# Altium footprint library ad.PcbLib: 129 footprints (part 2 of 12)
Each footprint in its own frame and in the unit in brackets; x right, y up, seen from the top. Pads: shape width x height; smd on the part's side, far side on the other; paste and mask are expansions set on the pad; w line width, h text height; cw(c..) or ccw(c..) is an arc to the next point about the centre after c.
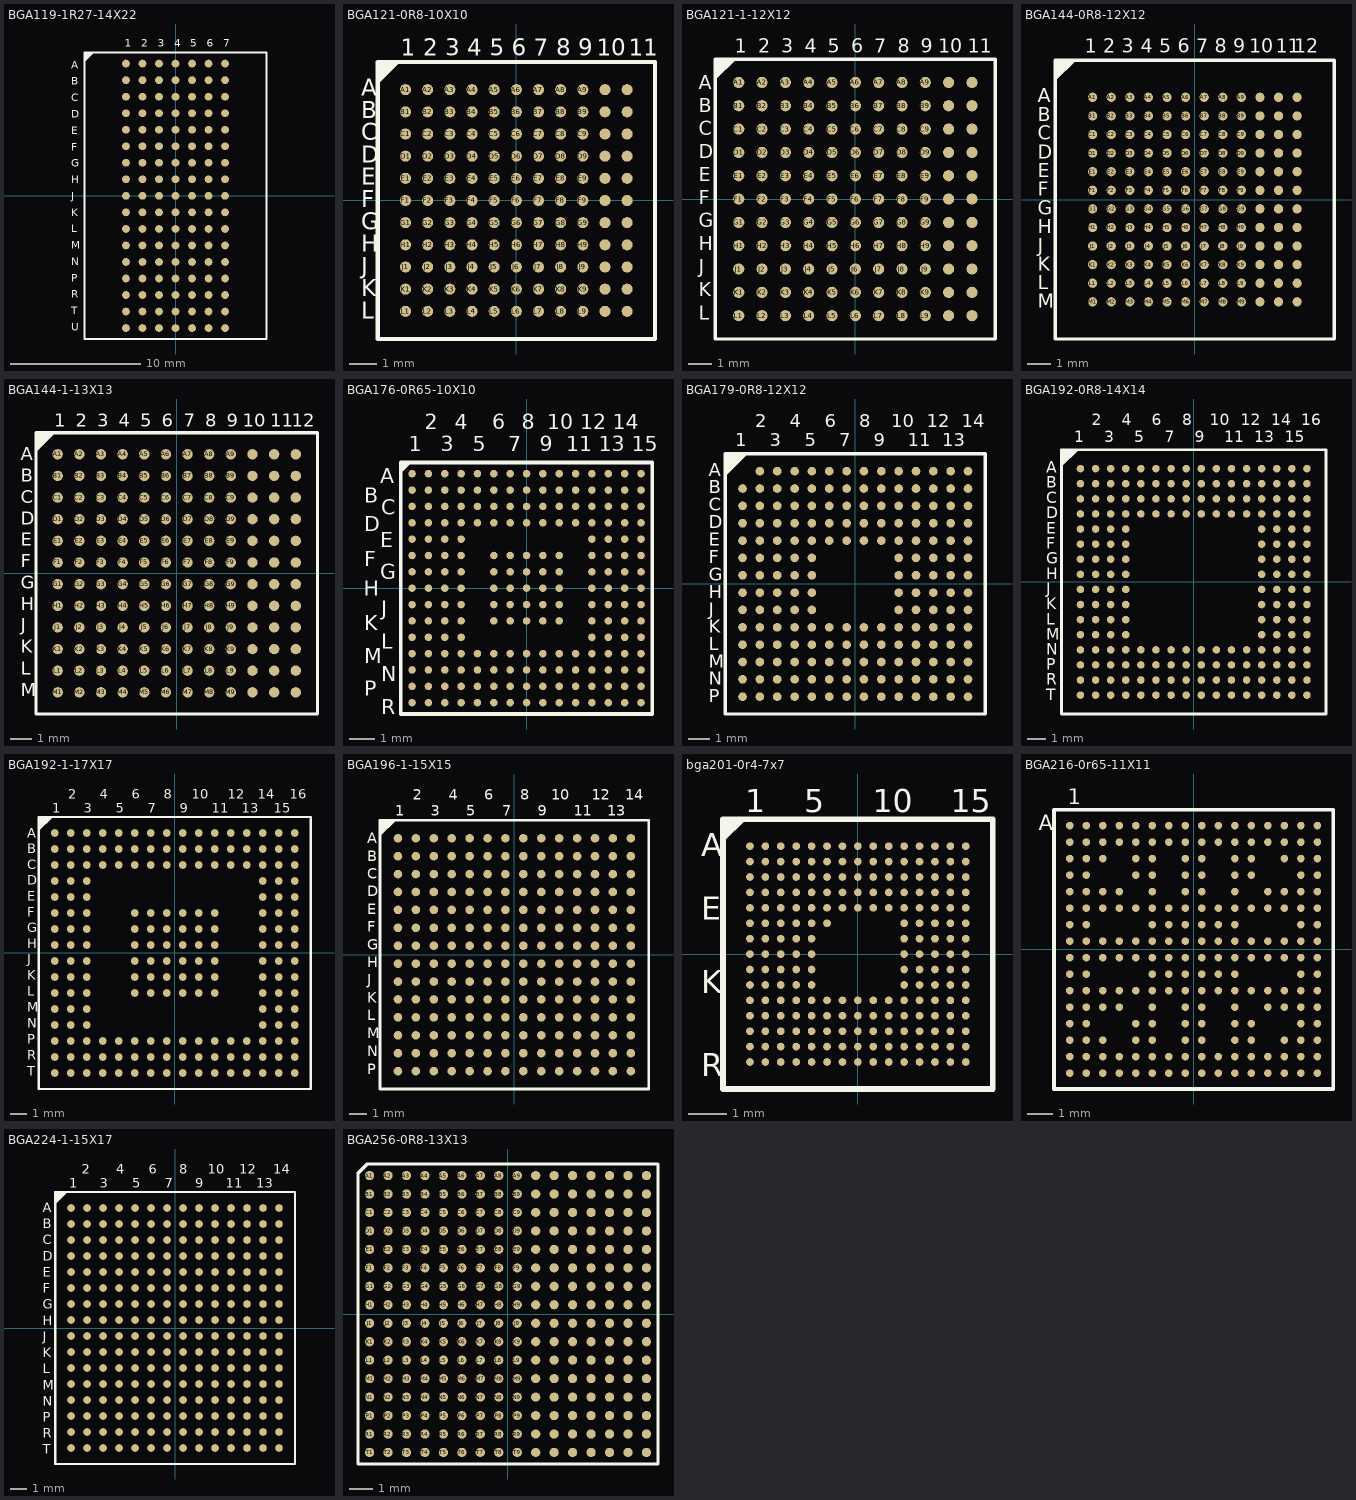
[diagram p1: the footprints below, top view; thin cyan lines are the x and y axes]

## BGA119-1R27-14X22 [mm]
pads (119):
  round 0.6 smd: A1(-3.81,10.16) A2(-2.54,10.16) A3(-1.27,10.16) A4(0,10.16) A5(1.27,10.16) A6(2.54,10.16) A7(3.81,10.16) B1(-3.81,8.89) B2(-2.54,8.89) B3(-1.27,8.89) B4(0,8.89) B5(1.27,8.89) B6(2.54,8.89) B7(3.81,8.89) C1(-3.81,7.62) C2(-2.54,7.62) C3(-1.27,7.62) C4(0,7.62) C5(1.27,7.62) C6(2.54,7.62) C7(3.81,7.62) D1(-3.81,6.35) D2(-2.54,6.35) D3(-1.27,6.35) D4(0,6.35) D5(1.27,6.35) D6(2.54,6.35) D7(3.81,6.35) E1(-3.81,5.08) E2(-2.54,5.08) E3(-1.27,5.08) E4(0,5.08) E5(1.27,5.08) E6(2.54,5.08) E7(3.81,5.08) F1(-3.81,3.81) F2(-2.54,3.81) F3(-1.27,3.81) F4(0,3.81) F5(1.27,3.81) F6(2.54,3.81) F7(3.81,3.81) G1(-3.81,2.54) G2(-2.54,2.54) G3(-1.27,2.54) G4(0,2.54) G5(1.27,2.54) G6(2.54,2.54) G7(3.81,2.54) H1(-3.81,1.27) H2(-2.54,1.27) H3(-1.27,1.27) H4(0,1.27) H5(1.27,1.27) H6(2.54,1.27) H7(3.81,1.27) J1(-3.81,0) J2(-2.54,0) J3(-1.27,0) J4(0,0) J5(1.27,0) J6(2.54,0) J7(3.81,0) K1(-3.81,-1.27) K2(-2.54,-1.27) K3(-1.27,-1.27) K4(0,-1.27) K5(1.27,-1.27) K6(2.54,-1.27) K7(3.81,-1.27) L1(-3.81,-2.54) L2(-2.54,-2.54) L3(-1.27,-2.54) L4(0,-2.54) L5(1.27,-2.54) L6(2.54,-2.54) L7(3.81,-2.54) M1(-3.81,-3.81) M2(-2.54,-3.81) M3(-1.27,-3.81) M4(0,-3.81) M5(1.27,-3.81) M6(2.54,-3.81) M7(3.81,-3.81) N1(-3.81,-5.08) N2(-2.54,-5.08) N3(-1.27,-5.08) N4(0,-5.08) N5(1.27,-5.08) N6(2.54,-5.08) N7(3.81,-5.08) P1(-3.81,-6.35) P2(-2.54,-6.35) P3(-1.27,-6.35) P4(0,-6.35) P5(1.27,-6.35) P6(2.54,-6.35) P7(3.81,-6.35) R1(-3.81,-7.62) R2(-2.54,-7.62) R3(-1.27,-7.62) R4(0,-7.62) R5(1.27,-7.62) R6(2.54,-7.62) R7(3.81,-7.62) T1(-3.81,-8.89) T2(-2.54,-8.89) T3(-1.27,-8.89) T4(0,-8.89) T5(1.27,-8.89) T6(2.54,-8.89) T7(3.81,-8.89) U1(-3.81,-10.16) U2(-2.54,-10.16) U3(-1.27,-10.16) U4(0,-10.16) U5(1.27,-10.16) U6(2.54,-10.16) U7(3.81,-10.16)
Top Overlay:
  region: -6.35,11 -7,11 -7,10.35
  lines w0.15: -6.365,10.985 -7,10.35 -7,-11 ; -6.35,11 7,11 ; -7,-11 -7,11 7,11 ; -7,-11 7,-11 7,11
  text "U" at -8.001,-10.366 h0.6
  text "T" at -8.001,-9.107 h0.6
  text "R" at -8.001,-7.848 h0.6
  text "P" at -8.001,-6.589 h0.6
  text "A" at -8.001,9.779 h0.6
  text "B" at -8.001,8.52 h0.6
  text "C" at -8.001,7.261 h0.6
  text "D" at -8.001,6.002 h0.6
  text "E" at -8.001,4.743 h0.6
  text "F" at -8.001,3.484 h0.6
  text "G" at -8.001,2.225 h0.6
  text "H" at -8.001,0.966 h0.6
  text "J" at -8.001,-0.294 h0.6
  text "K" at -8.001,-1.553 h0.6
  text "L" at -8.001,-2.812 h0.6
  text "M" at -8.001,-4.071 h0.6
  text "N" at -8.001,-5.33 h0.6
  text "2" at -2.646,11.452 h0.6
  text "3" at -1.38,11.452 h0.6
  text "7" at 3.683,11.452 h0.6
  text "1" at -3.912,11.452 h0.6
  text "4" at -0.115,11.452 h0.6
  text "6" at 2.417,11.452 h0.6
  text "5" at 1.151,11.452 h0.6

## BGA121-0R8-10X10 [mm]
pads (121):
  round 0.4 smd: A1(-4,4) A2(-3.2,4) A3(-2.4,4) A4(-1.6,4) A5(-0.8,4) A6(0,4) A7(0.8,4) A8(1.6,4) A9(2.4,4) A10(3.2,4) A11(4,4) B1(-4,3.2) B2(-3.2,3.2) B3(-2.4,3.2) B4(-1.6,3.2) B5(-0.8,3.2) B6(0,3.2) B7(0.8,3.2) B8(1.6,3.2) B9(2.4,3.2) B10(3.2,3.2) B11(4,3.2) C1(-4,2.4) C2(-3.2,2.4) C3(-2.4,2.4) C4(-1.6,2.4) C5(-0.8,2.4) C6(0,2.4) C7(0.8,2.4) C8(1.6,2.4) C9(2.4,2.4) C10(3.2,2.4) C11(4,2.4) D1(-4,1.6) D2(-3.2,1.6) D3(-2.4,1.6) D4(-1.6,1.6) D5(-0.8,1.6) D6(0,1.6) D7(0.8,1.6) D8(1.6,1.6) D9(2.4,1.6) D10(3.2,1.6) D11(4,1.6) E1(-4,0.8) E2(-3.2,0.8) E3(-2.4,0.8) E4(-1.6,0.8) E5(-0.8,0.8) E6(0,0.8) E7(0.8,0.8) E8(1.6,0.8) E9(2.4,0.8) E10(3.2,0.8) E11(4,0.8) F1(-4,0) F2(-3.2,0) F3(-2.4,0) F4(-1.6,0) F5(-0.8,0) F6(0,0) F7(0.8,0) F8(1.6,0) F9(2.4,0) F10(3.2,0) F11(4,0) G1(-4,-0.8) G2(-3.2,-0.8) G3(-2.4,-0.8) G4(-1.6,-0.8) G5(-0.8,-0.8) G6(0,-0.8) G7(0.8,-0.8) G8(1.6,-0.8) G9(2.4,-0.8) G10(3.2,-0.8) G11(4,-0.8) H1(-4,-1.6) H2(-3.2,-1.6) H3(-2.4,-1.6) H4(-1.6,-1.6) H5(-0.8,-1.6) H6(0,-1.6) H7(0.8,-1.6) H8(1.6,-1.6) H9(2.4,-1.6) H10(3.2,-1.6) H11(4,-1.6) J1(-4,-2.4) J2(-3.2,-2.4) J3(-2.4,-2.4) J4(-1.6,-2.4) J5(-0.8,-2.4) J6(0,-2.4) J7(0.8,-2.4) J8(1.6,-2.4) J9(2.4,-2.4) J10(3.2,-2.4) J11(4,-2.4) K1(-4,-3.2) K2(-3.2,-3.2) K3(-2.4,-3.2) K4(-1.6,-3.2) K5(-0.8,-3.2) K6(0,-3.2) K7(0.8,-3.2) K8(1.6,-3.2) K9(2.4,-3.2) K10(3.2,-3.2) K11(4,-3.2) L1(-4,-4) L2(-3.2,-4) L3(-2.4,-4) L4(-1.6,-4) L5(-0.8,-4) L6(0,-4) L7(0.8,-4) L8(1.6,-4) L9(2.4,-4) L10(3.2,-4) L11(4,-4)
Top Overlay:
  region: -4.191,5 -5,4.191 -5,5
  lines w0.15: -5,-5 -5,5 5,5 5,-5 -5,-5
  text "11" at 4.05,5.229 h0.6
  text "2" at -3.366,5.229 h0.6
  text "3" at -2.566,5.229 h0.6
  text "7" at 0.634,5.229 h0.6
  text "8" at 1.434,5.229 h0.6
  text "9" at 2.234,5.229 h0.6
  text "1" at -4.166,5.229 h0.6
  text "4" at -1.766,5.229 h0.6
  text "6" at -0.166,5.229 h0.6
  text "5" at -0.966,5.229 h0.6
  text "10" at 2.907,5.229 h0.6
  text "A" at -5.601,3.778 h0.6
  text "B" at -5.601,2.974 h0.6
  text "C" at -5.601,2.169 h0.6
  text "D" at -5.601,1.365 h0.6
  text "E" at -5.601,0.561 h0.6
  text "F" at -5.601,-0.244 h0.6
  text "G" at -5.601,-1.048 h0.6
  text "H" at -5.601,-1.852 h0.6
  text "J" at -5.601,-2.657 h0.6
  text "K" at -5.601,-3.461 h0.6
  text "L" at -5.601,-4.261 h0.6

## BGA121-1-12X12 [mm]
pads (121):
  round 0.48 smd: A1(-5,5) A2(-4,5) A3(-3,5) A4(-2,5) A5(-1,5) A6(0,5) A7(1,5) A8(2,5) A9(3,5) A10(4,5) A11(5,5) B1(-5,4) B2(-4,4) B3(-3,4) B4(-2,4) B5(-1,4) B6(0,4) B7(1,4) B8(2,4) B9(3,4) B10(4,4) B11(5,4) C1(-5,3) C2(-4,3) C3(-3,3) C4(-2,3) C5(-1,3) C6(0,3) C7(1,3) C8(2,3) C9(3,3) C10(4,3) C11(5,3) D1(-5,2) D2(-4,2) D3(-3,2) D4(-2,2) D5(-1,2) D6(0,2) D7(1,2) D8(2,2) D9(3,2) D10(4,2) D11(5,2) E1(-5,1) E2(-4,1) E3(-3,1) E4(-2,1) E5(-1,1) E6(0,1) E7(1,1) E8(2,1) E9(3,1) E10(4,1) E11(5,1) F1(-5,0) F2(-4,0) F3(-3,0) F4(-2,0) F5(-1,0) F6(0,0) F7(1,0) F8(2,0) F9(3,0) F10(4,0) F11(5,0) G1(-5,-1) G2(-4,-1) G3(-3,-1) G4(-2,-1) G5(-1,-1) G6(0,-1) G7(1,-1) G8(2,-1) G9(3,-1) G10(4,-1) G11(5,-1) H1(-5,-2) H2(-4,-2) H3(-3,-2) H4(-2,-2) H5(-1,-2) H6(0,-2) H7(1,-2) H8(2,-2) H9(3,-2) H10(4,-2) H11(5,-2) J1(-5,-3) J2(-4,-3) J3(-3,-3) J4(-2,-3) J5(-1,-3) J6(0,-3) J7(1,-3) J8(2,-3) J9(3,-3) J10(4,-3) J11(5,-3) K1(-5,-4) K2(-4,-4) K3(-3,-4) K4(-2,-4) K5(-1,-4) K6(0,-4) K7(1,-4) K8(2,-4) K9(3,-4) K10(4,-4) K11(5,-4) L1(-5,-5) L2(-4,-5) L3(-3,-5) L4(-2,-5) L5(-1,-5) L6(0,-5) L7(1,-5) L8(2,-5) L9(3,-5) L10(4,-5) L11(5,-5)
Top Overlay:
  region: -5.2,6 -6,5.2 -6,6
  lines w0.15: -5.865,5.985 -5.745,5.985 ; -5.41,6 -5.39,6 ; 4,6 -6,6 ; -6,-6 -6,6 ; -6,-6 6,-6 6,6 ; -6,-6 -6,5.2 -5.2,6 6,6 ; -6,6 6,6
  text "5" at -1.178,6.261 h0.6
  text "6" at -0.181,6.261 h0.6
  text "4" at -2.175,6.261 h0.6
  text "1" at -5.166,6.261 h0.6
  text "9" at 2.81,6.261 h0.6
  text "8" at 1.813,6.261 h0.6
  text "7" at 0.816,6.261 h0.6
  text "3" at -3.172,6.261 h0.6
  text "2" at -4.169,6.261 h0.6
  text "L" at -6.715,-5.175 h0.6
  text "K" at -6.715,-4.175 h0.6
  text "J" at -6.715,-3.187 h0.6
  text "H" at -6.715,-2.199 h0.6
  text "G" at -6.715,-1.212 h0.6
  text "F" at -6.715,-0.224 h0.6
  text "E" at -6.715,0.764 h0.6
  text "D" at -6.715,1.752 h0.6
  text "C" at -6.715,2.739 h0.6
  text "B" at -6.715,3.727 h0.6
  text "A" at -6.715,4.715 h0.6
  text "10" at 3.556,6.261 h0.6
  text "11" at 4.81,6.261 h0.6

## BGA144-0R8-12X12 [mm]
pads (144):
  round 0.4 smd: A1(-4.4,4.4) A2(-3.6,4.4) A3(-2.8,4.4) A4(-2,4.4) A5(-1.2,4.4) A6(-0.4,4.4) A7(0.4,4.4) A8(1.2,4.4) A9(2,4.4) A10(2.8,4.4) A11(3.6,4.4) A12(4.4,4.4) B1(-4.4,3.6) B2(-3.6,3.6) B3(-2.8,3.6) B4(-2,3.6) B5(-1.2,3.6) B6(-0.4,3.6) B7(0.4,3.6) B8(1.2,3.6) B9(2,3.6) B10(2.8,3.6) B11(3.6,3.6) B12(4.4,3.6) C1(-4.4,2.8) C2(-3.6,2.8) C3(-2.8,2.8) C4(-2,2.8) C5(-1.2,2.8) C6(-0.4,2.8) C7(0.4,2.8) C8(1.2,2.8) C9(2,2.8) C10(2.8,2.8) C11(3.6,2.8) C12(4.4,2.8) D1(-4.4,2) D2(-3.6,2) D3(-2.8,2) D4(-2,2) D5(-1.2,2) D6(-0.4,2) D7(0.4,2) D8(1.2,2) D9(2,2) D10(2.8,2) D11(3.6,2) D12(4.4,2) E1(-4.4,1.2) E2(-3.6,1.2) E3(-2.8,1.2) E4(-2,1.2) E5(-1.2,1.2) E6(-0.4,1.2) E7(0.4,1.2) E8(1.2,1.2) E9(2,1.2) E10(2.8,1.2) E11(3.6,1.2) E12(4.4,1.2) F1(-4.4,0.4) F2(-3.6,0.4) F3(-2.8,0.4) F4(-2,0.4) F5(-1.2,0.4) F6(-0.4,0.4) F7(0.4,0.4) F8(1.2,0.4) F9(2,0.4) F10(2.8,0.4) F11(3.6,0.4) F12(4.4,0.4) G1(-4.4,-0.4) G2(-3.6,-0.4) G3(-2.8,-0.4) G4(-2,-0.4) G5(-1.2,-0.4) G6(-0.4,-0.4) G7(0.4,-0.4) G8(1.2,-0.4) G9(2,-0.4) G10(2.8,-0.4) G11(3.6,-0.4) G12(4.4,-0.4) H1(-4.4,-1.2) H2(-3.6,-1.2) H3(-2.8,-1.2) H4(-2,-1.2) H5(-1.2,-1.2) H6(-0.4,-1.2) H7(0.4,-1.2) H8(1.2,-1.2) H9(2,-1.2) H10(2.8,-1.2) H11(3.6,-1.2) H12(4.4,-1.2) J1(-4.4,-2) J2(-3.6,-2) J3(-2.8,-2) J4(-2,-2) J5(-1.2,-2) J6(-0.4,-2) J7(0.4,-2) J8(1.2,-2) J9(2,-2) J10(2.8,-2) J11(3.6,-2) J12(4.4,-2) K1(-4.4,-2.8) K2(-3.6,-2.8) K3(-2.8,-2.8) K4(-2,-2.8) K5(-1.2,-2.8) K6(-0.4,-2.8) K7(0.4,-2.8) K8(1.2,-2.8) K9(2,-2.8) K10(2.8,-2.8) K11(3.6,-2.8) K12(4.4,-2.8) L1(-4.4,-3.6) L2(-3.6,-3.6) L3(-2.8,-3.6) L4(-2,-3.6) L5(-1.2,-3.6) L6(-0.4,-3.6) L7(0.4,-3.6) L8(1.2,-3.6) L9(2,-3.6) L10(2.8,-3.6) L11(3.6,-3.6) L12(4.4,-3.6) M1(-4.4,-4.4) M2(-3.6,-4.4) M3(-2.8,-4.4) M4(-2,-4.4) M5(-1.2,-4.4) M6(-0.4,-4.4) M7(0.4,-4.4) M8(1.2,-4.4) M9(2,-4.4) M10(2.8,-4.4) M11(3.6,-4.4) M12(4.4,-4.4)
Top Overlay:
  region: -5.207,6 -6,6 -6,5.2
  lines w0.15: -6,-6 -6,6 6,6 ; -6,-6 -6,5.2 -5.2,6 6,6 ; -6,-6 6,-6 6,6
  text "10" at 2.335,6.309 h0.6
  text "5" at -1.538,6.309 h0.6
  text "6" at -0.738,6.309 h0.6
  text "4" at -2.338,6.309 h0.6
  text "1" at -4.738,6.309 h0.6
  text "9" at 1.662,6.309 h0.6
  text "8" at 0.862,6.309 h0.6
  text "7" at 0.062,6.309 h0.6
  text "3" at -3.138,6.309 h0.6
  text "2" at -3.938,6.309 h0.6
  text "11" at 3.478,6.309 h0.6
  text "L" at -6.763,-3.861 h0.6
  text "K" at -6.763,-3.061 h0.6
  text "J" at -6.763,-2.257 h0.6
  text "H" at -6.763,-1.452 h0.6
  text "G" at -6.763,-0.648 h0.6
  text "F" at -6.763,0.156 h0.6
  text "E" at -6.763,0.961 h0.6
  text "D" at -6.763,1.765 h0.6
  text "C" at -6.763,2.569 h0.6
  text "B" at -6.763,3.374 h0.6
  text "A" at -6.763,4.178 h0.6
  text "M" at -6.763,-4.661 h0.6
  text "12" at 4.278,6.309 h0.6

## BGA144-1-13X13 [mm]
pads (144):
  round 0.48 smd: A1(-5.5,5.5) A2(-4.5,5.5) A3(-3.5,5.5) A4(-2.5,5.5) A5(-1.5,5.5) A6(-0.5,5.5) A7(0.5,5.5) A8(1.5,5.5) A9(2.5,5.5) A10(3.5,5.5) A11(4.5,5.5) A12(5.5,5.5) B1(-5.5,4.5) B2(-4.5,4.5) B3(-3.5,4.5) B4(-2.5,4.5) B5(-1.5,4.5) B6(-0.5,4.5) B7(0.5,4.5) B8(1.5,4.5) B9(2.5,4.5) B10(3.5,4.5) B11(4.5,4.5) B12(5.5,4.5) C1(-5.5,3.5) C2(-4.5,3.5) C3(-3.5,3.5) C4(-2.5,3.5) C5(-1.5,3.5) C6(-0.5,3.5) C7(0.5,3.5) C8(1.5,3.5) C9(2.5,3.5) C10(3.5,3.5) C11(4.5,3.5) C12(5.5,3.5) D1(-5.5,2.5) D2(-4.5,2.5) D3(-3.5,2.5) D4(-2.5,2.5) D5(-1.5,2.5) D6(-0.5,2.5) D7(0.5,2.5) D8(1.5,2.5) D9(2.5,2.5) D10(3.5,2.5) D11(4.5,2.5) D12(5.5,2.5) E1(-5.5,1.5) E2(-4.5,1.5) E3(-3.5,1.5) E4(-2.5,1.5) E5(-1.5,1.5) E6(-0.5,1.5) E7(0.5,1.5) E8(1.5,1.5) E9(2.5,1.5) E10(3.5,1.5) E11(4.5,1.5) E12(5.5,1.5) F1(-5.5,0.5) F2(-4.5,0.5) F3(-3.5,0.5) F4(-2.5,0.5) F5(-1.5,0.5) F6(-0.5,0.5) F7(0.5,0.5) F8(1.5,0.5) F9(2.5,0.5) F10(3.5,0.5) F11(4.5,0.5) F12(5.5,0.5) G1(-5.5,-0.5) G2(-4.5,-0.5) G3(-3.5,-0.5) G4(-2.5,-0.5) G5(-1.5,-0.5) G6(-0.5,-0.5) G7(0.5,-0.5) G8(1.5,-0.5) G9(2.5,-0.5) G10(3.5,-0.5) G11(4.5,-0.5) G12(5.5,-0.5) H1(-5.5,-1.5) H2(-4.5,-1.5) H3(-3.5,-1.5) H4(-2.5,-1.5) H5(-1.5,-1.5) H6(-0.5,-1.5) H7(0.5,-1.5) H8(1.5,-1.5) H9(2.5,-1.5) H10(3.5,-1.5) H11(4.5,-1.5) H12(5.5,-1.5) J1(-5.5,-2.5) J2(-4.5,-2.5) J3(-3.5,-2.5) J4(-2.5,-2.5) J5(-1.5,-2.5) J6(-0.5,-2.5) J7(0.5,-2.5) J8(1.5,-2.5) J9(2.5,-2.5) J10(3.5,-2.5) J11(4.5,-2.5) J12(5.5,-2.5) K1(-5.5,-3.5) K2(-4.5,-3.5) K3(-3.5,-3.5) K4(-2.5,-3.5) K5(-1.5,-3.5) K6(-0.5,-3.5) K7(0.5,-3.5) K8(1.5,-3.5) K9(2.5,-3.5) K10(3.5,-3.5) K11(4.5,-3.5) K12(5.5,-3.5) L1(-5.5,-4.5) L2(-4.5,-4.5) L3(-3.5,-4.5) L4(-2.5,-4.5) L5(-1.5,-4.5) L6(-0.5,-4.5) L7(0.5,-4.5) L8(1.5,-4.5) L9(2.5,-4.5) L10(3.5,-4.5) L11(4.5,-4.5) L12(5.5,-4.5) M1(-5.5,-5.5) M2(-4.5,-5.5) M3(-3.5,-5.5) M4(-2.5,-5.5) M5(-1.5,-5.5) M6(-0.5,-5.5) M7(0.5,-5.5) M8(1.5,-5.5) M9(2.5,-5.5) M10(3.5,-5.5) M11(4.5,-5.5) M12(5.5,-5.5)
Top Overlay:
  region: -5.7,6.5 -6.5,5.7 -6.5,6.5
  lines w0.15: -6.5,-6.5 6.5,-6.5 6.5,6.5 ; -6.5,-6.5 -6.5,5.7 -5.7,6.5 6.5,6.5 ; -6.5,-6.5 -6.5,6.5 6.5,6.5
  text "11" at 4.31,6.761 h0.6
  text "10" at 3.056,6.761 h0.6
  text "2" at -4.669,6.761 h0.6
  text "3" at -3.672,6.761 h0.6
  text "7" at 0.316,6.761 h0.6
  text "8" at 1.313,6.761 h0.6
  text "9" at 2.31,6.761 h0.6
  text "1" at -5.666,6.761 h0.6
  text "4" at -2.675,6.761 h0.6
  text "6" at -0.681,6.761 h0.6
  text "5" at -1.678,6.761 h0.6
  text "A" at -7.215,5.215 h0.6
  text "B" at -7.215,4.227 h0.6
  text "C" at -7.215,3.239 h0.6
  text "D" at -7.215,2.252 h0.6
  text "E" at -7.215,1.264 h0.6
  text "F" at -7.215,0.276 h0.6
  text "G" at -7.215,-0.712 h0.6
  text "H" at -7.215,-1.699 h0.6
  text "J" at -7.215,-2.687 h0.6
  text "K" at -7.215,-3.675 h0.6
  text "L" at -7.215,-4.675 h0.6
  text "M" at -7.215,-5.675 h0.6
  text "12" at 5.31,6.761 h0.6

## BGA176-0R65-10X10 [mm]
pads (201):
  round 0.3 smd: A1(-4.55,4.55) A2(-3.9,4.55) A3(-3.25,4.55) A4(-2.6,4.55) A5(-1.95,4.55) A6(-1.3,4.55) A7(-0.65,4.55) A8(0,4.55) A9(0.65,4.55) A10(1.3,4.55) A11(1.95,4.55) A12(2.6,4.55) A13(3.25,4.55) A14(3.9,4.55) A15(4.55,4.55) B1(-4.55,3.9) B2(-3.9,3.9) B3(-3.25,3.9) B4(-2.6,3.9) B5(-1.95,3.9) B6(-1.3,3.9) B7(-0.65,3.9) B8(0,3.9) B9(0.65,3.9) B10(1.3,3.9) B11(1.95,3.9) B12(2.6,3.9) B13(3.25,3.9) B14(3.9,3.9) B15(4.55,3.9) C1(-4.55,3.25) C2(-3.9,3.25) C3(-3.25,3.25) C4(-2.6,3.25) C5(-1.95,3.25) C6(-1.3,3.25) C7(-0.65,3.25) C8(0,3.25) C9(0.65,3.25) C10(1.3,3.25) C11(1.95,3.25) C12(2.6,3.25) C13(3.25,3.25) C14(3.9,3.25) C15(4.55,3.25) D1(-4.55,2.6) D2(-3.9,2.6) D3(-3.25,2.6) D4(-2.6,2.6) D5(-1.95,2.6) D6(-1.3,2.6) D7(-0.65,2.6) D8(0,2.6) D9(0.65,2.6) D10(1.3,2.6) D11(1.95,2.6) D12(2.6,2.6) D13(3.25,2.6) D14(3.9,2.6) D15(4.55,2.6) E1(-4.55,1.95) E2(-3.9,1.95) E3(-3.25,1.95) E4(-2.6,1.95) E12(2.6,1.95) E13(3.25,1.95) E14(3.9,1.95) E15(4.55,1.95) F1(-4.55,1.3) F2(-3.9,1.3) F3(-3.25,1.3) F4(-2.6,1.3) F6(-1.3,1.3) F7(-0.65,1.3) F8(0,1.3) F9(0.65,1.3) F10(1.3,1.3) F12(2.6,1.3) F13(3.25,1.3) F14(3.9,1.3) F15(4.55,1.3) G1(-4.55,0.65) G2(-3.9,0.65) G3(-3.25,0.65) G4(-2.6,0.65) G6(-1.3,0.65) G7(-0.65,0.65) G8(0,0.65) G9(0.65,0.65) G10(1.3,0.65) G12(2.6,0.65) G13(3.25,0.65) G14(3.9,0.65) G15(4.55,0.65) H1(-4.55,0) H2(-3.9,0) H3(-3.25,0) H4(-2.6,0) H6(-1.3,0) H7(-0.65,0) H8(0,0) H9(0.65,0) H10(1.3,0) H12(2.6,0) H13(3.25,0) H14(3.9,0) H15(4.55,0) J1(-4.55,-0.65) J2(-3.9,-0.65) J3(-3.25,-0.65) J4(-2.6,-0.65) J6(-1.3,-0.65) J7(-0.65,-0.65) J8(0,-0.65) J9(0.65,-0.65) J10(1.3,-0.65) J12(2.6,-0.65) J13(3.25,-0.65) J14(3.9,-0.65) J15(4.55,-0.65) K1(-4.55,-1.3) K2(-3.9,-1.3) K3(-3.25,-1.3) K4(-2.6,-1.3) K6(-1.3,-1.3) K7(-0.65,-1.3) K8(0,-1.3) K9(0.65,-1.3) K10(1.3,-1.3) K12(2.6,-1.3) K13(3.25,-1.3) K14(3.9,-1.3) K15(4.55,-1.3) L1(-4.55,-1.95) L2(-3.9,-1.95) L3(-3.25,-1.95) L4(-2.6,-1.95) L12(2.6,-1.95) L13(3.25,-1.95) L14(3.9,-1.95) L15(4.55,-1.95) M1(-4.55,-2.6) M2(-3.9,-2.6) M3(-3.25,-2.6) M4(-2.6,-2.6) M5(-1.95,-2.6) M6(-1.3,-2.6) M7(-0.65,-2.6) M8(0,-2.6) M9(0.65,-2.6) M10(1.3,-2.6) M11(1.95,-2.6) M12(2.6,-2.6) M13(3.25,-2.6) M14(3.9,-2.6) M15(4.55,-2.6) N1(-4.55,-3.25) N2(-3.9,-3.25) N3(-3.25,-3.25) N4(-2.6,-3.25) N5(-1.95,-3.25) N6(-1.3,-3.25) N7(-0.65,-3.25) N8(0,-3.25) N9(0.65,-3.25) N10(1.3,-3.25) N11(1.95,-3.25) N12(2.6,-3.25) N13(3.25,-3.25) N14(3.9,-3.25) N15(4.55,-3.25) P1(-4.55,-3.9) P2(-3.9,-3.9) P3(-3.25,-3.9) P4(-2.6,-3.9) P5(-1.95,-3.9) P6(-1.3,-3.9) P7(-0.65,-3.9) P8(0,-3.9) P9(0.65,-3.9) P10(1.3,-3.9) P11(1.95,-3.9) P12(2.6,-3.9) P13(3.25,-3.9) P14(3.9,-3.9) P15(4.55,-3.9) R1(-4.55,-4.55) R2(-3.9,-4.55) R3(-3.25,-4.55) R4(-2.6,-4.55) R5(-1.95,-4.55) R6(-1.3,-4.55) R7(-0.65,-4.55) R8(0,-4.55) R9(0.65,-4.55) R10(1.3,-4.55) R11(1.95,-4.55) R12(2.6,-4.55) R13(3.25,-4.55) R14(3.9,-4.55) R15(4.55,-4.55)
Top Overlay:
  region: -5,5 -4.572,5 -5,4.572
  lines w0.15: -5,-5 -5,5 5,5 5,-5 -5,-5
  text "2" at -4.038,6.324 h0.6
  text "3" at -3.403,5.435 h0.6
  text "7" at -0.736,5.435 h0.6
  text "8" at -0.186,6.312 h0.6
  text "9" at 0.534,5.435 h0.6
  text "1" at -4.673,5.435 h0.6
  text "4" at -2.853,6.312 h0.6
  text "6" at -1.371,6.324 h0.6
  text "5" at -2.133,5.435 h0.6
  text "10" at 0.83,6.312 h0.6
  text "A" at -5.816,4.165 h0.6
  text "B" at -6.451,3.403 h0.6
  text "C" at -5.774,2.921 h0.6
  text "D" at -6.451,2.26 h0.6
  text "E" at -5.816,1.625 h0.6
  text "F" at -6.451,0.863 h0.6
  text "G" at -5.816,0.355 h0.6
  text "H" at -6.473,-0.296 h0.6
  text "J" at -5.774,-1.1 h0.6
  text "K" at -6.451,-1.677 h0.6
  text "12" at 2.13,6.312 h0.6
  text "11" at 1.58,5.435 h0.6
  text "14" at 3.43,6.312 h0.6
  text "13" at 2.88,5.435 h0.6
  text "15" at 4.18,5.435 h0.6
  text "M" at -6.451,-2.977 h0.6
  text "L" at -5.774,-2.4 h0.6
  text "P" at -6.451,-4.277 h0.6
  text "N" at -5.774,-3.7 h0.6
  text "R" at -5.774,-5 h0.6

## BGA179-0R8-12X12 [mm]
pads (179):
  round 0.4 smd: A2(-4.4,5.2) A3(-3.6,5.2) A4(-2.8,5.2) A5(-2,5.2) A6(-1.2,5.2) A7(-0.4,5.2) A8(0.4,5.2) A9(1.2,5.2) A10(2,5.2) A11(2.8,5.2) A12(3.6,5.2) A13(4.4,5.2) A14(5.2,5.2) B1(-5.2,4.4) B2(-4.4,4.4) B3(-3.6,4.4) B4(-2.8,4.4) B5(-2,4.4) B6(-1.2,4.4) B7(-0.4,4.4) B8(0.4,4.4) B9(1.2,4.4) B10(2,4.4) B11(2.8,4.4) B12(3.6,4.4) B13(4.4,4.4) B14(5.2,4.4) C1(-5.2,3.6) C2(-4.4,3.6) C3(-3.6,3.6) C4(-2.8,3.6) C5(-2,3.6) C6(-1.2,3.6) C7(-0.4,3.6) C8(0.4,3.6) C9(1.2,3.6) C10(2,3.6) C11(2.8,3.6) C12(3.6,3.6) C13(4.4,3.6) C14(5.2,3.6) D1(-5.2,2.8) D2(-4.4,2.8) D3(-3.6,2.8) D4(-2.8,2.8) D5(-2,2.8) D6(-1.2,2.8) D7(-0.4,2.8) D8(0.4,2.8) D9(1.2,2.8) D10(2,2.8) D11(2.8,2.8) D12(3.6,2.8) D13(4.4,2.8) D14(5.2,2.8) E1(-5.2,2) E2(-4.4,2) E3(-3.6,2) E4(-2.8,2) E5(-2,2) E6(-1.2,2) E7(-0.4,2) E8(0.4,2) E9(1.2,2) E10(2,2) E11(2.8,2) E12(3.6,2) E13(4.4,2) E14(5.2,2) F1(-5.2,1.2) F2(-4.4,1.2) F3(-3.6,1.2) F4(-2.8,1.2) F5(-2,1.2) F10(2,1.2) F11(2.8,1.2) F12(3.6,1.2) F13(4.4,1.2) F14(5.2,1.2) G1(-5.2,0.4) G2(-4.4,0.4) G3(-3.6,0.4) G4(-2.8,0.4) G5(-2,0.4) G10(2,0.4) G11(2.8,0.4) G12(3.6,0.4) G13(4.4,0.4) G14(5.2,0.4) H1(-5.2,-0.4) H2(-4.4,-0.4) H3(-3.6,-0.4) H4(-2.8,-0.4) H5(-2,-0.4) H10(2,-0.4) H11(2.8,-0.4) H12(3.6,-0.4) H13(4.4,-0.4) H14(5.2,-0.4) J1(-5.2,-1.2) J2(-4.4,-1.2) J3(-3.6,-1.2) J4(-2.8,-1.2) J5(-2,-1.2) J10(2,-1.2) J11(2.8,-1.2) J12(3.6,-1.2) J13(4.4,-1.2) J14(5.2,-1.2) K1(-5.2,-2) K2(-4.4,-2) K3(-3.6,-2) K4(-2.8,-2) K5(-2,-2) K6(-1.2,-2) K7(-0.4,-2) K8(0.4,-2) K9(1.2,-2) K10(2,-2) K11(2.8,-2) K12(3.6,-2) K13(4.4,-2) K14(5.2,-2) L1(-5.2,-2.8) L2(-4.4,-2.8) L3(-3.6,-2.8) L4(-2.8,-2.8) L5(-2,-2.8) L6(-1.2,-2.8) L7(-0.4,-2.8) L8(0.4,-2.8) L9(1.2,-2.8) L10(2,-2.8) L11(2.8,-2.8) L12(3.6,-2.8) L13(4.4,-2.8) L14(5.2,-2.8) M1(-5.2,-3.6) M2(-4.4,-3.6) M3(-3.6,-3.6) M4(-2.8,-3.6) M5(-2,-3.6) M6(-1.2,-3.6) M7(-0.4,-3.6) M8(0.4,-3.6) M9(1.2,-3.6) M10(2,-3.6) M11(2.8,-3.6) M12(3.6,-3.6) M13(4.4,-3.6) M14(5.2,-3.6) N1(-5.2,-4.4) N2(-4.4,-4.4) N3(-3.6,-4.4) N4(-2.8,-4.4) N5(-2,-4.4) N6(-1.2,-4.4) N7(-0.4,-4.4) N8(0.4,-4.4) N9(1.2,-4.4) N10(2,-4.4) N11(2.8,-4.4) N12(3.6,-4.4) N13(4.4,-4.4) N14(5.2,-4.4) P1(-5.2,-5.2) P2(-4.4,-5.2) P3(-3.6,-5.2) P4(-2.8,-5.2) P5(-2,-5.2) P6(-1.2,-5.2) P7(-0.4,-5.2) P8(0.4,-5.2) P9(1.2,-5.2) P10(2,-5.2) P11(2.8,-5.2) P12(3.6,-5.2) P13(4.4,-5.2) P14(5.2,-5.2)
Top Overlay:
  region: -6,6 -5.08,6 -5.08,5.969 -6,5.049
  lines w0.15: -6,-6 -6,6 6,6 ; -6,-6 -6,5.049 -5.049,6 6,6 ; -6,-6 6,-6 6,6
  text "P" at -6.763,-5.461 h0.6
  text "N" at -6.763,-4.661 h0.6
  text "14" at 4.902,7.239 h0.6
  text "13" at 4.013,6.35 h0.6
  text "L" at -6.763,-3.061 h0.6
  text "K" at -6.763,-2.261 h0.6
  text "J" at -6.763,-1.457 h0.6
  text "H" at -6.763,-0.652 h0.6
  text "G" at -6.763,0.152 h0.6
  text "F" at -6.763,0.956 h0.6
  text "E" at -6.763,1.761 h0.6
  text "D" at -6.763,2.565 h0.6
  text "C" at -6.763,3.369 h0.6
  text "B" at -6.763,4.174 h0.6
  text "A" at -6.763,4.978 h0.6
  text "M" at -6.763,-3.861 h0.6
  text "10" at 1.662,7.236 h0.6
  text "5" at -2.338,6.347 h0.6
  text "6" at -1.411,7.236 h0.6
  text "4" at -3.011,7.236 h0.6
  text "1" at -5.538,6.347 h0.6
  text "9" at 0.862,6.347 h0.6
  text "8" at 0.189,7.236 h0.6
  text "7" at -0.738,6.347 h0.6
  text "3" at -3.938,6.347 h0.6
  text "2" at -4.611,7.236 h0.6
  text "11" at 2.413,6.35 h0.6
  text "12" at 3.302,7.239 h0.6

## BGA192-0R8-14X14 [mm]
pads (192):
  round 0.4 smd: A1(-6,6) A2(-5.2,6) A3(-4.4,6) A4(-3.6,6) A5(-2.8,6) A6(-2,6) A7(-1.2,6) A8(-0.4,6) A9(0.4,6) A10(1.2,6) A11(2,6) A12(2.8,6) A13(3.6,6) A14(4.4,6) A15(5.2,6) A16(6,6) B1(-6,5.2) B2(-5.2,5.2) B3(-4.4,5.2) B4(-3.6,5.2) B5(-2.8,5.2) B6(-2,5.2) B7(-1.2,5.2) B8(-0.4,5.2) B9(0.4,5.2) B10(1.2,5.2) B11(2,5.2) B12(2.8,5.2) B13(3.6,5.2) B14(4.4,5.2) B15(5.2,5.2) B16(6,5.2) C1(-6,4.4) C2(-5.2,4.4) C3(-4.4,4.4) C4(-3.6,4.4) C5(-2.8,4.4) C6(-2,4.4) C7(-1.2,4.4) C8(-0.4,4.4) C9(0.4,4.4) C10(1.2,4.4) C11(2,4.4) C12(2.8,4.4) C13(3.6,4.4) C14(4.4,4.4) C15(5.2,4.4) C16(6,4.4) D1(-6,3.6) D2(-5.2,3.6) D3(-4.4,3.6) D4(-3.6,3.6) D5(-2.8,3.6) D6(-2,3.6) D7(-1.2,3.6) D8(-0.4,3.6) D9(0.4,3.6) D10(1.2,3.6) D11(2,3.6) D12(2.8,3.6) D13(3.6,3.6) D14(4.4,3.6) D15(5.2,3.6) D16(6,3.6) E1(-6,2.8) E2(-5.2,2.8) E3(-4.4,2.8) E4(-3.6,2.8) E13(3.6,2.8) E14(4.4,2.8) E15(5.2,2.8) E16(6,2.8) F1(-6,2) F2(-5.2,2) F3(-4.4,2) F4(-3.6,2) F13(3.6,2) F14(4.4,2) F15(5.2,2) F16(6,2) G1(-6,1.2) G2(-5.2,1.2) G3(-4.4,1.2) G4(-3.6,1.2) G13(3.6,1.2) G14(4.4,1.2) G15(5.2,1.2) G16(6,1.2) H1(-6,0.4) H2(-5.2,0.4) H3(-4.4,0.4) H4(-3.6,0.4) H13(3.6,0.4) H14(4.4,0.4) H15(5.2,0.4) H16(6,0.4) J1(-6,-0.4) J2(-5.2,-0.4) J3(-4.4,-0.4) J4(-3.6,-0.4) J13(3.6,-0.4) J14(4.4,-0.4) J15(5.2,-0.4) J16(6,-0.4) K1(-6,-1.2) K2(-5.2,-1.2) K3(-4.4,-1.2) K4(-3.6,-1.2) K13(3.6,-1.2) K14(4.4,-1.2) K15(5.2,-1.2) K16(6,-1.2) L1(-6,-2) L2(-5.2,-2) L3(-4.4,-2) L4(-3.6,-2) L13(3.6,-2) L14(4.4,-2) L15(5.2,-2) L16(6,-2) M1(-6,-2.8) M2(-5.2,-2.8) M3(-4.4,-2.8) M4(-3.6,-2.8) M13(3.6,-2.8) M14(4.4,-2.8) M15(5.2,-2.8) M16(6,-2.8) N1(-6,-3.6) N2(-5.2,-3.6) N3(-4.4,-3.6) N4(-3.6,-3.6) N5(-2.8,-3.6) N6(-2,-3.6) N7(-1.2,-3.6) N8(-0.4,-3.6) N9(0.4,-3.6) N10(1.2,-3.6) N11(2,-3.6) N12(2.8,-3.6) N13(3.6,-3.6) N14(4.4,-3.6) N15(5.2,-3.6) N16(6,-3.6) P1(-6,-4.4) P2(-5.2,-4.4) P3(-4.4,-4.4) P4(-3.6,-4.4) P5(-2.8,-4.4) P6(-2,-4.4) P7(-1.2,-4.4) P8(-0.4,-4.4) P9(0.4,-4.4) P10(1.2,-4.4) P11(2,-4.4) P12(2.8,-4.4) P13(3.6,-4.4) P14(4.4,-4.4) P15(5.2,-4.4) P16(6,-4.4) R1(-6,-5.2) R2(-5.2,-5.2) R3(-4.4,-5.2) R4(-3.6,-5.2) R5(-2.8,-5.2) R6(-2,-5.2) R7(-1.2,-5.2) R8(-0.4,-5.2) R9(0.4,-5.2) R10(1.2,-5.2) R11(2,-5.2) R12(2.8,-5.2) R13(3.6,-5.2) R14(4.4,-5.2) R15(5.2,-5.2) R16(6,-5.2) T1(-6,-6) T2(-5.2,-6) T3(-4.4,-6) T4(-3.6,-6) T5(-2.8,-6) T6(-2,-6) T7(-1.2,-6) T8(-0.4,-6) T9(0.4,-6) T10(1.2,-6) T11(2,-6) T12(2.8,-6) T13(3.6,-6) T14(4.4,-6) T15(5.2,-6) T16(6,-6)
Top Overlay:
  region: -6.223,7 -7,6.223 -7,7
  lines w0.15: -6.2,7 -7,6.2 -7,-7 ; -7,-7 7,-7 7,7 -7,7 -7,-7
  text "12" at 2.502,8.293 h0.6
  text "11" at 1.613,7.404 h0.6
  text "2" at -5.411,8.29 h0.6
  text "3" at -4.738,7.401 h0.6
  text "7" at -1.538,7.401 h0.6
  text "8" at -0.611,8.29 h0.6
  text "9" at 0.062,7.401 h0.6
  text "1" at -6.338,7.401 h0.6
  text "4" at -3.811,8.29 h0.6
  text "6" at -2.211,8.29 h0.6
  text "5" at -3.138,7.401 h0.6
  text "10" at 0.862,8.29 h0.6
  text "M" at -7.817,-3.061 h0.6
  text "A" at -7.817,5.778 h0.6
  text "B" at -7.817,4.974 h0.6
  text "C" at -7.817,4.169 h0.6
  text "D" at -7.817,3.365 h0.6
  text "E" at -7.817,2.561 h0.6
  text "F" at -7.817,1.756 h0.6
  text "G" at -7.817,0.952 h0.6
  text "H" at -7.817,0.148 h0.6
  text "J" at -7.817,-0.657 h0.6
  text "K" at -7.817,-1.461 h0.6
  text "L" at -7.817,-2.261 h0.6
  text "13" at 3.213,7.404 h0.6
  text "14" at 4.102,8.293 h0.6
  text "N" at -7.817,-3.861 h0.6
  text "P" at -7.817,-4.661 h0.6
  text "16" at 5.702,8.293 h0.6
  text "15" at 4.813,7.404 h0.6
  text "T" at -7.817,-6.261 h0.6
  text "R" at -7.817,-5.461 h0.6

## BGA192-1-17X17 [mm]
pads (192):
  round 0.48 smd: A1(-7.5,7.5) A2(-6.5,7.5) A3(-5.5,7.5) A4(-4.5,7.5) A5(-3.5,7.5) A6(-2.5,7.5) A7(-1.5,7.5) A8(-0.5,7.5) A9(0.5,7.5) A10(1.5,7.5) A11(2.5,7.5) A12(3.5,7.5) A13(4.5,7.5) A14(5.5,7.5) A15(6.5,7.5) A16(7.5,7.5) B1(-7.5,6.5) B2(-6.5,6.5) B3(-5.5,6.5) B4(-4.5,6.5) B5(-3.5,6.5) B6(-2.5,6.5) B7(-1.5,6.5) B8(-0.5,6.5) B9(0.5,6.5) B10(1.5,6.5) B11(2.5,6.5) B12(3.5,6.5) B13(4.5,6.5) B14(5.5,6.5) B15(6.5,6.5) B16(7.5,6.5) C1(-7.5,5.5) C2(-6.5,5.5) C3(-5.5,5.5) C4(-4.5,5.5) C5(-3.5,5.5) C6(-2.5,5.5) C7(-1.5,5.5) C8(-0.5,5.5) C9(0.5,5.5) C10(1.5,5.5) C11(2.5,5.5) C12(3.5,5.5) C13(4.5,5.5) C14(5.5,5.5) C15(6.5,5.5) C16(7.5,5.5) D1(-7.5,4.5) D2(-6.5,4.5) D3(-5.5,4.5) D14(5.5,4.5) D15(6.5,4.5) D16(7.5,4.5) E1(-7.5,3.5) E2(-6.5,3.5) E3(-5.5,3.5) E14(5.5,3.5) E15(6.5,3.5) E16(7.5,3.5) F1(-7.5,2.5) F2(-6.5,2.5) F3(-5.5,2.5) F6(-2.5,2.5) F7(-1.5,2.5) F8(-0.5,2.5) F9(0.5,2.5) F10(1.5,2.5) F11(2.5,2.5) F14(5.5,2.5) F15(6.5,2.5) F16(7.5,2.5) G1(-7.5,1.5) G2(-6.5,1.5) G3(-5.5,1.5) G6(-2.5,1.5) G7(-1.5,1.5) G8(-0.5,1.5) G9(0.5,1.5) G10(1.5,1.5) G11(2.5,1.5) G14(5.5,1.5) G15(6.5,1.5) G16(7.5,1.5) H1(-7.5,0.5) H2(-6.5,0.5) H3(-5.5,0.5) H6(-2.5,0.5) H7(-1.5,0.5) H8(-0.5,0.5) H9(0.5,0.5) H10(1.5,0.5) H11(2.5,0.5) H14(5.5,0.5) H15(6.5,0.5) H16(7.5,0.5) J1(-7.5,-0.5) J2(-6.5,-0.5) J3(-5.5,-0.5) J6(-2.5,-0.5) J7(-1.5,-0.5) J8(-0.5,-0.5) J9(0.5,-0.5) J10(1.5,-0.5) J11(2.5,-0.5) J14(5.5,-0.5) J15(6.5,-0.5) J16(7.5,-0.5) K1(-7.5,-1.5) K2(-6.5,-1.5) K3(-5.5,-1.5) K6(-2.5,-1.5) K7(-1.5,-1.5) K8(-0.5,-1.5) K9(0.5,-1.5) K10(1.5,-1.5) K11(2.5,-1.5) K14(5.5,-1.5) K15(6.5,-1.5) K16(7.5,-1.5) L1(-7.5,-2.5) L2(-6.5,-2.5) L3(-5.5,-2.5) L6(-2.5,-2.5) L7(-1.5,-2.5) L8(-0.5,-2.5) L9(0.5,-2.5) L10(1.5,-2.5) L11(2.5,-2.5) L14(5.5,-2.5) L15(6.5,-2.5) L16(7.5,-2.5) M1(-7.5,-3.5) M2(-6.5,-3.5) M3(-5.5,-3.5) M14(5.5,-3.5) M15(6.5,-3.5) M16(7.5,-3.5) N1(-7.5,-4.5) N2(-6.5,-4.5) N3(-5.5,-4.5) N14(5.5,-4.5) N15(6.5,-4.5) N16(7.5,-4.5) P1(-7.5,-5.5) P2(-6.5,-5.5) P3(-5.5,-5.5) P4(-4.5,-5.5) P5(-3.5,-5.5) P6(-2.5,-5.5) P7(-1.5,-5.5) P8(-0.5,-5.5) P9(0.5,-5.5) P10(1.5,-5.5) P11(2.5,-5.5) P12(3.5,-5.5) P13(4.5,-5.5) P14(5.5,-5.5) P15(6.5,-5.5) P16(7.5,-5.5) R1(-7.5,-6.5) R2(-6.5,-6.5) R3(-5.5,-6.5) R4(-4.5,-6.5) R5(-3.5,-6.5) R6(-2.5,-6.5) R7(-1.5,-6.5) R8(-0.5,-6.5) R9(0.5,-6.5) R10(1.5,-6.5) R11(2.5,-6.5) R12(3.5,-6.5) R13(4.5,-6.5) R14(5.5,-6.5) R15(6.5,-6.5) R16(7.5,-6.5) T1(-7.5,-7.5) T2(-6.5,-7.5) T3(-5.5,-7.5) T4(-4.5,-7.5) T5(-3.5,-7.5) T6(-2.5,-7.5) T7(-1.5,-7.5) T8(-0.5,-7.5) T9(0.5,-7.5) T10(1.5,-7.5) T11(2.5,-7.5) T12(3.5,-7.5) T13(4.5,-7.5) T14(5.5,-7.5) T15(6.5,-7.5) T16(7.5,-7.5)
Top Overlay:
  region: -7.7,8.5 -8.5,7.7 -8.5,8.5
  lines w0.15: -8.5,-8.5 -8.5,8.5 8.5,8.5 ; -8.5,-8.5 8.5,-8.5 8.5,8.5 ; -8.5,-8.5 -8.5,7.7 -7.7,8.5 8.5,8.5
  text "15" at 6.183,8.761 h0.6
  text "16" at 7.183,9.65 h0.6
  text "13" at 4.183,8.761 h0.6
  text "14" at 5.183,9.65 h0.6
  text "T" at -9.215,-7.675 h0.6
  text "R" at -9.215,-6.675 h0.6
  text "P" at -9.215,-5.675 h0.6
  text "N" at -9.215,-4.675 h0.6
  text "A" at -9.215,7.215 h0.6
  text "B" at -9.215,6.227 h0.6
  text "C" at -9.215,5.239 h0.6
  text "D" at -9.215,4.252 h0.6
  text "E" at -9.215,3.264 h0.6
  text "F" at -9.215,2.276 h0.6
  text "G" at -9.215,1.288 h0.6
  text "H" at -9.215,0.301 h0.6
  text "J" at -9.215,-0.687 h0.6
  text "K" at -9.215,-1.675 h0.6
  text "L" at -9.215,-2.675 h0.6
  text "M" at -9.215,-3.675 h0.6
  text "12" at 3.31,9.65 h0.6
  text "5" at -3.678,8.761 h0.6
  text "6" at -2.681,9.65 h0.6
  text "4" at -4.675,9.65 h0.6
  text "1" at -7.666,8.761 h0.6
  text "9" at 0.31,8.761 h0.6
  text "8" at -0.687,9.65 h0.6
  text "7" at -1.684,8.761 h0.6
  text "3" at -5.672,8.761 h0.6
  text "2" at -6.669,9.65 h0.6
  text "10" at 1.056,9.65 h0.6
  text "11" at 2.31,8.761 h0.6

## BGA196-1-15X15 [mm]
pads (196):
  round 0.48 smd: A1(-6.5,6.5) A2(-5.5,6.5) A3(-4.5,6.5) A4(-3.5,6.5) A5(-2.5,6.5) A6(-1.5,6.5) A7(-0.5,6.5) A8(0.5,6.5) A9(1.5,6.5) A10(2.5,6.5) A11(3.5,6.5) A12(4.5,6.5) A13(5.5,6.5) A14(6.5,6.5) B1(-6.5,5.5) B2(-5.5,5.5) B3(-4.5,5.5) B4(-3.5,5.5) B5(-2.5,5.5) B6(-1.5,5.5) B7(-0.5,5.5) B8(0.5,5.5) B9(1.5,5.5) B10(2.5,5.5) B11(3.5,5.5) B12(4.5,5.5) B13(5.5,5.5) B14(6.5,5.5) C1(-6.5,4.5) C2(-5.5,4.5) C3(-4.5,4.5) C4(-3.5,4.5) C5(-2.5,4.5) C6(-1.5,4.5) C7(-0.5,4.5) C8(0.5,4.5) C9(1.5,4.5) C10(2.5,4.5) C11(3.5,4.5) C12(4.5,4.5) C13(5.5,4.5) C14(6.5,4.5) D1(-6.5,3.5) D2(-5.5,3.5) D3(-4.5,3.5) D4(-3.5,3.5) D5(-2.5,3.5) D6(-1.5,3.5) D7(-0.5,3.5) D8(0.5,3.5) D9(1.5,3.5) D10(2.5,3.5) D11(3.5,3.5) D12(4.5,3.5) D13(5.5,3.5) D14(6.5,3.5) E1(-6.5,2.5) E2(-5.5,2.5) E3(-4.5,2.5) E4(-3.5,2.5) E5(-2.5,2.5) E6(-1.5,2.5) E7(-0.5,2.5) E8(0.5,2.5) E9(1.5,2.5) E10(2.5,2.5) E11(3.5,2.5) E12(4.5,2.5) E13(5.5,2.5) E14(6.5,2.5) F1(-6.5,1.5) F2(-5.5,1.5) F3(-4.5,1.5) F4(-3.5,1.5) F5(-2.5,1.5) F6(-1.5,1.5) F7(-0.5,1.5) F8(0.5,1.5) F9(1.5,1.5) F10(2.5,1.5) F11(3.5,1.5) F12(4.5,1.5) F13(5.5,1.5) F14(6.5,1.5) G1(-6.5,0.5) G2(-5.5,0.5) G3(-4.5,0.5) G4(-3.5,0.5) G5(-2.5,0.5) G6(-1.5,0.5) G7(-0.5,0.5) G8(0.5,0.5) G9(1.5,0.5) G10(2.5,0.5) G11(3.5,0.5) G12(4.5,0.5) G13(5.5,0.5) G14(6.5,0.5) H1(-6.5,-0.5) H2(-5.5,-0.5) H3(-4.5,-0.5) H4(-3.5,-0.5) H5(-2.5,-0.5) H6(-1.5,-0.5) H7(-0.5,-0.5) H8(0.5,-0.5) H9(1.5,-0.5) H10(2.5,-0.5) H11(3.5,-0.5) H12(4.5,-0.5) H13(5.5,-0.5) H14(6.5,-0.5) J1(-6.5,-1.5) J2(-5.5,-1.5) J3(-4.5,-1.5) J4(-3.5,-1.5) J5(-2.5,-1.5) J6(-1.5,-1.5) J7(-0.5,-1.5) J8(0.5,-1.5) J9(1.5,-1.5) J10(2.5,-1.5) J11(3.5,-1.5) J12(4.5,-1.5) J13(5.5,-1.5) J14(6.5,-1.5) K1(-6.5,-2.5) K2(-5.5,-2.5) K3(-4.5,-2.5) K4(-3.5,-2.5) K5(-2.5,-2.5) K6(-1.5,-2.5) K7(-0.5,-2.5) K8(0.5,-2.5) K9(1.5,-2.5) K10(2.5,-2.5) K11(3.5,-2.5) K12(4.5,-2.5) K13(5.5,-2.5) K14(6.5,-2.5) L1(-6.5,-3.5) L2(-5.5,-3.5) L3(-4.5,-3.5) L4(-3.5,-3.5) L5(-2.5,-3.5) L6(-1.5,-3.5) L7(-0.5,-3.5) L8(0.5,-3.5) L9(1.5,-3.5) L10(2.5,-3.5) L11(3.5,-3.5) L12(4.5,-3.5) L13(5.5,-3.5) L14(6.5,-3.5) M1(-6.5,-4.5) M2(-5.5,-4.5) M3(-4.5,-4.5) M4(-3.5,-4.5) M5(-2.5,-4.5) M6(-1.5,-4.5) M7(-0.5,-4.5) M8(0.5,-4.5) M9(1.5,-4.5) M10(2.5,-4.5) M11(3.5,-4.5) M12(4.5,-4.5) M13(5.5,-4.5) M14(6.5,-4.5) N1(-6.5,-5.5) N2(-5.5,-5.5) N3(-4.5,-5.5) N4(-3.5,-5.5) N5(-2.5,-5.5) N6(-1.5,-5.5) N7(-0.5,-5.5) N8(0.5,-5.5) N9(1.5,-5.5) N10(2.5,-5.5) N11(3.5,-5.5) N12(4.5,-5.5) N13(5.5,-5.5) N14(6.5,-5.5) P1(-6.5,-6.5) P2(-5.5,-6.5) P3(-4.5,-6.5) P4(-3.5,-6.5) P5(-2.5,-6.5) P6(-1.5,-6.5) P7(-0.5,-6.5) P8(0.5,-6.5) P9(1.5,-6.5) P10(2.5,-6.5) P11(3.5,-6.5) P12(4.5,-6.5) P13(5.5,-6.5) P14(6.5,-6.5)
Top Overlay:
  region: -6.7,7.5 -7.5,6.7 -7.5,7.5
  lines w0.15: -7.5,-7.5 -7.5,6.7 -6.7,7.5 7.5,7.5 ; -7.5,-7.5 7.5,-7.5 7.5,7.5 ; -7.5,-7.5 -7.5,7.5 7.5,7.5
  text "11" at 3.31,7.761 h0.6
  text "10" at 2.056,8.65 h0.6
  text "2" at -5.669,8.65 h0.6
  text "3" at -4.672,7.761 h0.6
  text "7" at -0.684,7.761 h0.6
  text "8" at 0.313,8.65 h0.6
  text "9" at 1.31,7.761 h0.6
  text "1" at -6.666,7.761 h0.6
  text "4" at -3.675,8.65 h0.6
  text "6" at -1.681,8.65 h0.6
  text "5" at -2.678,7.761 h0.6
  text "12" at 4.31,8.65 h0.6
  text "14" at 6.183,8.65 h0.6
  text "13" at 5.183,7.761 h0.6
  text "M" at -8.215,-4.675 h0.6
  text "L" at -8.215,-3.675 h0.6
  text "K" at -8.215,-2.675 h0.6
  text "J" at -8.215,-1.687 h0.6
  text "H" at -8.215,-0.699 h0.6
  text "G" at -8.215,0.288 h0.6
  text "F" at -8.215,1.276 h0.6
  text "E" at -8.215,2.264 h0.6
  text "D" at -8.215,3.252 h0.6
  text "C" at -8.215,4.239 h0.6
  text "B" at -8.215,5.227 h0.6
  text "A" at -8.215,6.215 h0.6
  text "N" at -8.215,-5.675 h0.6
  text "P" at -8.215,-6.675 h0.6

## bga201-0r4-7x7 [mm]
pads (201):
  round 0.2 smd: A1(-2.8,2.8) A2(-2.4,2.8) A3(-2,2.8) A4(-1.6,2.8) A5(-1.2,2.8) A6(-0.8,2.8) A7(-0.4,2.8) A8(0,2.8) A9(0.4,2.8) A10(0.8,2.8) A11(1.2,2.8) A12(1.6,2.8) A13(2,2.8) A14(2.4,2.8) A15(2.8,2.8) B1(-2.8,2.4) B2(-2.4,2.4) B3(-2,2.4) B4(-1.6,2.4) B5(-1.2,2.4) B6(-0.8,2.4) B7(-0.4,2.4) B8(0,2.4) B9(0.4,2.4) B10(0.8,2.4) B11(1.2,2.4) B12(1.6,2.4) B13(2,2.4) B14(2.4,2.4) B15(2.8,2.4) C1(-2.8,2) C2(-2.4,2) C3(-2,2) C4(-1.6,2) C5(-1.2,2) C6(-0.8,2) C7(-0.4,2) C8(0,2) C9(0.4,2) C10(0.8,2) C11(1.2,2) C12(1.6,2) C13(2,2) C14(2.4,2) C15(2.8,2) D1(-2.8,1.6) D2(-2.4,1.6) D3(-2,1.6) D4(-1.6,1.6) D5(-1.2,1.6) D6(-0.8,1.6) D7(-0.4,1.6) D8(0,1.6) D9(0.4,1.6) D10(0.8,1.6) D11(1.2,1.6) D12(1.6,1.6) D13(2,1.6) D14(2.4,1.6) D15(2.8,1.6) E1(-2.8,1.2) E2(-2.4,1.2) E3(-2,1.2) E4(-1.6,1.2) E5(-1.2,1.2) E6(-0.8,1.2) E7(-0.4,1.2) E8(0,1.2) E9(0.4,1.2) E10(0.8,1.2) E11(1.2,1.2) E12(1.6,1.2) E13(2,1.2) E14(2.4,1.2) E15(2.8,1.2) F1(-2.8,0.8) F2(-2.4,0.8) F3(-2,0.8) F4(-1.6,0.8) F5(-1.2,0.8) F6(-0.8,0.8) F11(1.2,0.8) F12(1.6,0.8) F13(2,0.8) F14(2.4,0.8) F15(2.8,0.8) G1(-2.8,0.4) G2(-2.4,0.4) G3(-2,0.4) G4(-1.6,0.4) G5(-1.2,0.4) G11(1.2,0.4) G12(1.6,0.4) G13(2,0.4) G14(2.4,0.4) G15(2.8,0.4) H1(-2.8,0) H2(-2.4,0) H3(-2,0) H4(-1.6,0) H5(-1.2,0) H11(1.2,0) H12(1.6,0) H13(2,0) H14(2.4,0) H15(2.8,0) J1(-2.8,-0.4) J2(-2.4,-0.4) J3(-2,-0.4) J4(-1.6,-0.4) J5(-1.2,-0.4) J11(1.2,-0.4) J12(1.6,-0.4) J13(2,-0.4) J14(2.4,-0.4) J15(2.8,-0.4) K1(-2.8,-0.8) K2(-2.4,-0.8) K3(-2,-0.8) K4(-1.6,-0.8) K5(-1.2,-0.8) K11(1.2,-0.8) K12(1.6,-0.8) K13(2,-0.8) K14(2.4,-0.8) K15(2.8,-0.8) L1(-2.8,-1.2) L2(-2.4,-1.2) L3(-2,-1.2) L4(-1.6,-1.2) L5(-1.2,-1.2) L6(-0.8,-1.2) L7(-0.4,-1.2) L8(0,-1.2) L9(0.4,-1.2) L10(0.8,-1.2) L11(1.2,-1.2) L12(1.6,-1.2) L13(2,-1.2) L14(2.4,-1.2) L15(2.8,-1.2) M1(-2.8,-1.6) M2(-2.4,-1.6) M3(-2,-1.6) M4(-1.6,-1.6) M5(-1.2,-1.6) M6(-0.8,-1.6) M7(-0.4,-1.6) M8(0,-1.6) M9(0.4,-1.6) M10(0.8,-1.6) M11(1.2,-1.6) M12(1.6,-1.6) M13(2,-1.6) M14(2.4,-1.6) M15(2.8,-1.6) N1(-2.8,-2) N2(-2.4,-2) N3(-2,-2) N4(-1.6,-2) N5(-1.2,-2) N6(-0.8,-2) N7(-0.4,-2) N8(0,-2) N9(0.4,-2) N10(0.8,-2) N11(1.2,-2) N12(1.6,-2) N13(2,-2) N14(2.4,-2) N15(2.8,-2) P1(-2.8,-2.4) P2(-2.4,-2.4) P3(-2,-2.4) P4(-1.6,-2.4) P5(-1.2,-2.4) P6(-0.8,-2.4) P7(-0.4,-2.4) P8(0,-2.4) P9(0.4,-2.4) P10(0.8,-2.4) P11(1.2,-2.4) P12(1.6,-2.4) P13(2,-2.4) P14(2.4,-2.4) P15(2.8,-2.4) R1(-2.8,-2.8) R2(-2.4,-2.8) R3(-2,-2.8) R4(-1.6,-2.8) R5(-1.2,-2.8) R6(-0.8,-2.8) R7(-0.4,-2.8) R8(0,-2.8) R9(0.4,-2.8) R10(0.8,-2.8) R11(1.2,-2.8) R12(1.6,-2.8) R13(2,-2.8) R14(2.4,-2.8) R15(2.8,-2.8)
Top Overlay:
  region: -3,3.5 -3.5,3 -3.5,3.5
  lines w0.15: -3.5,-3.5 3.5,-3.5 3.5,3.5 ; -3.5,-3.5 -3.5,3 -3,3.5 3.5,3.5 ; -3.5,-3.5 -3.5,3.5 3.5,3.5
  text "15" at 2.413,3.683 h0.6
  text "5" at -1.397,3.683 h0.6
  text "1" at -2.921,3.683 h0.6
  text "10" at 0.381,3.683 h0.6
  text "R" at -4.064,-3.175 h0.6
  text "A" at -4.064,2.54 h0.6
  text "E" at -4.064,0.889 h0.6
  text "K" at -4.064,-1.016 h0.6

## BGA216-0r65-11X11 [mm]
pads (216):
  round 0.3 smd: A1(-4.875,4.875) A2(-4.225,4.875) A3(-3.575,4.875) A4(-2.925,4.875) A5(-2.275,4.875) A6(-1.625,4.875) A7(-0.975,4.875) A8(-0.325,4.875) A9(0.325,4.875) A10(0.975,4.875) A11(1.625,4.875) A12(2.275,4.875) A13(2.925,4.875) A14(3.575,4.875) A15(4.225,4.875) A16(4.875,4.875) B1(-4.875,4.225) B2(-4.225,4.225) B3(-3.575,4.225) B4(-2.925,4.225) B5(-2.275,4.225) B6(-1.625,4.225) B7(-0.975,4.225) B8(-0.325,4.225) B9(0.325,4.225) B10(0.975,4.225) B11(1.625,4.225) B12(2.275,4.225) B13(2.925,4.225) B14(3.575,4.225) B15(4.225,4.225) B16(4.875,4.225) C1(-4.875,3.575) C2(-4.225,3.575) C3(-3.575,3.575) C5(-2.275,3.575) C6(-1.625,3.575) C8(-0.325,3.575) C9(0.325,3.575) C11(1.625,3.575) C12(2.275,3.575) C14(3.575,3.575) C15(4.225,3.575) C16(4.875,3.575) D1(-4.875,2.925) D2(-4.225,2.925) D5(-2.275,2.925) D6(-1.625,2.925) D8(-0.325,2.925) D9(0.325,2.925) D11(1.625,2.925) D12(2.275,2.925) D15(4.225,2.925) D16(4.875,2.925) E1(-4.875,2.275) E2(-4.225,2.275) E3(-3.575,2.275) E4(-2.925,2.275) E6(-1.625,2.275) E8(-0.325,2.275) E9(0.325,2.275) E11(1.625,2.275) E13(2.925,2.275) E14(3.575,2.275) E15(4.225,2.275) E16(4.875,2.275) F1(-4.875,1.625) F2(-4.225,1.625) F3(-3.575,1.625) F4(-2.925,1.625) F5(-2.275,1.625) F6(-1.625,1.625) F7(-0.975,1.625) F8(-0.325,1.625) F9(0.325,1.625) F10(0.975,1.625) F11(1.625,1.625) F12(2.275,1.625) F13(2.925,1.625) F14(3.575,1.625) F15(4.225,1.625) F16(4.875,1.625) G1(-4.875,0.975) G2(-4.225,0.975) G6(-1.625,0.975) G7(-0.975,0.975) G8(-0.325,0.975) G9(0.325,0.975) G10(0.975,0.975) G11(1.625,0.975) G15(4.225,0.975) G16(4.875,0.975) H1(-4.875,0.325) H2(-4.225,0.325) H3(-3.575,0.325) H4(-2.925,0.325) H5(-2.275,0.325) H6(-1.625,0.325) H7(-0.975,0.325) H8(-0.325,0.325) H9(0.325,0.325) H10(0.975,0.325) H11(1.625,0.325) H12(2.275,0.325) H13(2.925,0.325) H14(3.575,0.325) H15(4.225,0.325) H16(4.875,0.325) J1(-4.875,-0.325) J2(-4.225,-0.325) J3(-3.575,-0.325) J4(-2.925,-0.325) J5(-2.275,-0.325) J6(-1.625,-0.325) J7(-0.975,-0.325) J8(-0.325,-0.325) J9(0.325,-0.325) J10(0.975,-0.325) J11(1.625,-0.325) J12(2.275,-0.325) J13(2.925,-0.325) J14(3.575,-0.325) J15(4.225,-0.325) J16(4.875,-0.325) K1(-4.875,-0.975) K2(-4.225,-0.975) K6(-1.625,-0.975) K7(-0.975,-0.975) K8(-0.325,-0.975) K9(0.325,-0.975) K10(0.975,-0.975) K11(1.625,-0.975) K15(4.225,-0.975) K16(4.875,-0.975) L1(-4.875,-1.625) L2(-4.225,-1.625) L3(-3.575,-1.625) L4(-2.925,-1.625) L5(-2.275,-1.625) L6(-1.625,-1.625) L7(-0.975,-1.625) L8(-0.325,-1.625) L9(0.325,-1.625) L10(0.975,-1.625) L11(1.625,-1.625) L12(2.275,-1.625) L13(2.925,-1.625) L14(3.575,-1.625) L15(4.225,-1.625) L16(4.875,-1.625) M1(-4.875,-2.275) M2(-4.225,-2.275) M3(-3.575,-2.275) M4(-2.925,-2.275) M6(-1.625,-2.275) M8(-0.325,-2.275) M9(0.325,-2.275) M11(1.625,-2.275) M13(2.925,-2.275) M14(3.575,-2.275) M15(4.225,-2.275) M16(4.875,-2.275) N1(-4.875,-2.925) N2(-4.225,-2.925) N5(-2.275,-2.925) N6(-1.625,-2.925) N8(-0.325,-2.925) N9(0.325,-2.925) N11(1.625,-2.925) N12(2.275,-2.925) N15(4.225,-2.925) N16(4.875,-2.925) P1(-4.875,-3.575) P2(-4.225,-3.575) P3(-3.575,-3.575) P5(-2.275,-3.575) P6(-1.625,-3.575) P8(-0.325,-3.575) P9(0.325,-3.575) P11(1.625,-3.575) P12(2.275,-3.575) P14(3.575,-3.575) P15(4.225,-3.575) P16(4.875,-3.575) R1(-4.875,-4.225) R2(-4.225,-4.225) R3(-3.575,-4.225) R4(-2.925,-4.225) R5(-2.275,-4.225) R6(-1.625,-4.225) R7(-0.975,-4.225) R8(-0.325,-4.225) R9(0.325,-4.225) R10(0.975,-4.225) R11(1.625,-4.225) R12(2.275,-4.225) R13(2.925,-4.225) R14(3.575,-4.225) R15(4.225,-4.225) R16(4.875,-4.225) T1(-4.875,-4.875) T2(-4.225,-4.875) T3(-3.575,-4.875) T4(-2.925,-4.875) T5(-2.275,-4.875) T6(-1.625,-4.875) T7(-0.975,-4.875) T8(-0.325,-4.875) T9(0.325,-4.875) T10(0.975,-4.875) T11(1.625,-4.875) T12(2.275,-4.875) T13(2.925,-4.875) T14(3.575,-4.875) T15(4.225,-4.875) T16(4.875,-4.875)
Top Overlay:
  lines w0.15: -5.5,-5.5 -5.5,5.5 5.5,5.5 5.5,-5.5 -5.5,-5.5
  text "1" at -4.953,5.715 h0.6
  text "A" at -6.096,4.699 h0.6

## BGA224-1-15X17 [mm]
pads (224):
  round 0.48 smd: A1(-6.5,7.5) A2(-5.5,7.5) A3(-4.5,7.5) A4(-3.5,7.5) A5(-2.5,7.5) A6(-1.5,7.5) A7(-0.5,7.5) A8(0.5,7.5) A9(1.5,7.5) A10(2.5,7.5) A11(3.5,7.5) A12(4.5,7.5) A13(5.5,7.5) A14(6.5,7.5) B1(-6.5,6.5) B2(-5.5,6.5) B3(-4.5,6.5) B4(-3.5,6.5) B5(-2.5,6.5) B6(-1.5,6.5) B7(-0.5,6.5) B8(0.5,6.5) B9(1.5,6.5) B10(2.5,6.5) B11(3.5,6.5) B12(4.5,6.5) B13(5.5,6.5) B14(6.5,6.5) C1(-6.5,5.5) C2(-5.5,5.5) C3(-4.5,5.5) C4(-3.5,5.5) C5(-2.5,5.5) C6(-1.5,5.5) C7(-0.5,5.5) C8(0.5,5.5) C9(1.5,5.5) C10(2.5,5.5) C11(3.5,5.5) C12(4.5,5.5) C13(5.5,5.5) C14(6.5,5.5) D1(-6.5,4.5) D2(-5.5,4.5) D3(-4.5,4.5) D4(-3.5,4.5) D5(-2.5,4.5) D6(-1.5,4.5) D7(-0.5,4.5) D8(0.5,4.5) D9(1.5,4.5) D10(2.5,4.5) D11(3.5,4.5) D12(4.5,4.5) D13(5.5,4.5) D14(6.5,4.5) E1(-6.5,3.5) E2(-5.5,3.5) E3(-4.5,3.5) E4(-3.5,3.5) E5(-2.5,3.5) E6(-1.5,3.5) E7(-0.5,3.5) E8(0.5,3.5) E9(1.5,3.5) E10(2.5,3.5) E11(3.5,3.5) E12(4.5,3.5) E13(5.5,3.5) E14(6.5,3.5) F1(-6.5,2.5) F2(-5.5,2.5) F3(-4.5,2.5) F4(-3.5,2.5) F5(-2.5,2.5) F6(-1.5,2.5) F7(-0.5,2.5) F8(0.5,2.5) F9(1.5,2.5) F10(2.5,2.5) F11(3.5,2.5) F12(4.5,2.5) F13(5.5,2.5) F14(6.5,2.5) G1(-6.5,1.5) G2(-5.5,1.5) G3(-4.5,1.5) G4(-3.5,1.5) G5(-2.5,1.5) G6(-1.5,1.5) G7(-0.5,1.5) G8(0.5,1.5) G9(1.5,1.5) G10(2.5,1.5) G11(3.5,1.5) G12(4.5,1.5) G13(5.5,1.5) G14(6.5,1.5) H1(-6.5,0.5) H2(-5.5,0.5) H3(-4.5,0.5) H4(-3.5,0.5) H5(-2.5,0.5) H6(-1.5,0.5) H7(-0.5,0.5) H8(0.5,0.5) H9(1.5,0.5) H10(2.5,0.5) H11(3.5,0.5) H12(4.5,0.5) H13(5.5,0.5) H14(6.5,0.5) J1(-6.5,-0.5) J2(-5.5,-0.5) J3(-4.5,-0.5) J4(-3.5,-0.5) J5(-2.5,-0.5) J6(-1.5,-0.5) J7(-0.5,-0.5) J8(0.5,-0.5) J9(1.5,-0.5) J10(2.5,-0.5) J11(3.5,-0.5) J12(4.5,-0.5) J13(5.5,-0.5) J14(6.5,-0.5) K1(-6.5,-1.5) K2(-5.5,-1.5) K3(-4.5,-1.5) K4(-3.5,-1.5) K5(-2.5,-1.5) K6(-1.5,-1.5) K7(-0.5,-1.5) K8(0.5,-1.5) K9(1.5,-1.5) K10(2.5,-1.5) K11(3.5,-1.5) K12(4.5,-1.5) K13(5.5,-1.5) K14(6.5,-1.5) L1(-6.5,-2.5) L2(-5.5,-2.5) L3(-4.5,-2.5) L4(-3.5,-2.5) L5(-2.5,-2.5) L6(-1.5,-2.5) L7(-0.5,-2.5) L8(0.5,-2.5) L9(1.5,-2.5) L10(2.5,-2.5) L11(3.5,-2.5) L12(4.5,-2.5) L13(5.5,-2.5) L14(6.5,-2.5) M1(-6.5,-3.5) M2(-5.5,-3.5) M3(-4.5,-3.5) M4(-3.5,-3.5) M5(-2.5,-3.5) M6(-1.5,-3.5) M7(-0.5,-3.5) M8(0.5,-3.5) M9(1.5,-3.5) M10(2.5,-3.5) M11(3.5,-3.5) M12(4.5,-3.5) M13(5.5,-3.5) M14(6.5,-3.5) N1(-6.5,-4.5) N2(-5.5,-4.5) N3(-4.5,-4.5) N4(-3.5,-4.5) N5(-2.5,-4.5) N6(-1.5,-4.5) N7(-0.5,-4.5) N8(0.5,-4.5) N9(1.5,-4.5) N10(2.5,-4.5) N11(3.5,-4.5) N12(4.5,-4.5) N13(5.5,-4.5) N14(6.5,-4.5) P1(-6.5,-5.5) P2(-5.5,-5.5) P3(-4.5,-5.5) P4(-3.5,-5.5) P5(-2.5,-5.5) P6(-1.5,-5.5) P7(-0.5,-5.5) P8(0.5,-5.5) P9(1.5,-5.5) P10(2.5,-5.5) P11(3.5,-5.5) P12(4.5,-5.5) P13(5.5,-5.5) P14(6.5,-5.5) R1(-6.5,-6.5) R2(-5.5,-6.5) R3(-4.5,-6.5) R4(-3.5,-6.5) R5(-2.5,-6.5) R6(-1.5,-6.5) R7(-0.5,-6.5) R8(0.5,-6.5) R9(1.5,-6.5) R10(2.5,-6.5) R11(3.5,-6.5) R12(4.5,-6.5) R13(5.5,-6.5) R14(6.5,-6.5) T1(-6.5,-7.5) T2(-5.5,-7.5) T3(-4.5,-7.5) T4(-3.5,-7.5) T5(-2.5,-7.5) T6(-1.5,-7.5) T7(-0.5,-7.5) T8(0.5,-7.5) T9(1.5,-7.5) T10(2.5,-7.5) T11(3.5,-7.5) T12(4.5,-7.5) T13(5.5,-7.5) T14(6.5,-7.5)
Top Overlay:
  region: -6.731,8.5 -7.484,7.747 -7.5,7.747 -7.5,8.5
  lines w0.15: -7.5,-8.5 7.5,-8.5 7.5,8.5 -7.5,8.5 -7.5,-8.5
  text "1" at -6.604,8.763 h0.6
  text "2" at -5.842,9.652 h0.6
  text "3" at -4.699,8.763 h0.6
  text "4" at -3.683,9.652 h0.6
  text "5" at -2.667,8.763 h0.6
  text "6" at -1.651,9.652 h0.6
  text "7" at -0.635,8.763 h0.6
  text "8" at 0.254,9.652 h0.6
  text "9" at 1.27,8.763 h0.6
  text "10" at 2.032,9.652 h0.6
  text "11" at 3.175,8.763 h0.6
  text "12" at 4.025,9.652 h0.6
  text "13" at 5.08,8.763 h0.6
  text "14" at 6.13,9.652 h0.6
  text "A" at -8.255,7.239 h0.6
  text "B" at -8.255,6.231 h0.6
  text "C" at -8.255,5.224 h0.6
  text "D" at -8.255,4.216 h0.6
  text "E" at -8.255,3.209 h0.6
  text "F" at -8.255,2.201 h0.6
  text "G" at -8.255,1.194 h0.6
  text "H" at -8.255,0.186 h0.6
  text "J" at -8.255,-0.821 h0.6
  text "K" at -8.255,-1.829 h0.6
  text "L" at -8.255,-2.836 h0.6
  text "M" at -8.255,-3.844 h0.6
  text "N" at -8.255,-4.851 h0.6
  text "P" at -8.255,-5.859 h0.6
  text "R" at -8.255,-6.866 h0.6
  text "T" at -8.255,-7.874 h0.6

## BGA256-0R8-13X13 [mm]
pads (256):
  round 0.4 smd: A1(-6,6) A2(-5.2,6) A3(-4.4,6) A4(-3.6,6) A5(-2.8,6) A6(-2,6) A7(-1.2,6) A8(-0.4,6) A9(0.4,6) A10(1.2,6) A11(2,6) A12(2.8,6) A13(3.6,6) A14(4.4,6) A15(5.2,6) A16(6,6) B1(-6,5.2) B2(-5.2,5.2) B3(-4.4,5.2) B4(-3.6,5.2) B5(-2.8,5.2) B6(-2,5.2) B7(-1.2,5.2) B8(-0.4,5.2) B9(0.4,5.2) B10(1.2,5.2) B11(2,5.2) B12(2.8,5.2) B13(3.6,5.2) B14(4.4,5.2) B15(5.2,5.2) B16(6,5.2) C1(-6,4.4) C2(-5.2,4.4) C3(-4.4,4.4) C4(-3.6,4.4) C5(-2.8,4.4) C6(-2,4.4) C7(-1.2,4.4) C8(-0.4,4.4) C9(0.4,4.4) C10(1.2,4.4) C11(2,4.4) C12(2.8,4.4) C13(3.6,4.4) C14(4.4,4.4) C15(5.2,4.4) C16(6,4.4) D1(-6,3.6) D2(-5.2,3.6) D3(-4.4,3.6) D4(-3.6,3.6) D5(-2.8,3.6) D6(-2,3.6) D7(-1.2,3.6) D8(-0.4,3.6) D9(0.4,3.6) D10(1.2,3.6) D11(2,3.6) D12(2.8,3.6) D13(3.6,3.6) D14(4.4,3.6) D15(5.2,3.6) D16(6,3.6) E1(-6,2.8) E2(-5.2,2.8) E3(-4.4,2.8) E4(-3.6,2.8) E5(-2.8,2.8) E6(-2,2.8) E7(-1.2,2.8) E8(-0.4,2.8) E9(0.4,2.8) E10(1.2,2.8) E11(2,2.8) E12(2.8,2.8) E13(3.6,2.8) E14(4.4,2.8) E15(5.2,2.8) E16(6,2.8) F1(-6,2) F2(-5.2,2) F3(-4.4,2) F4(-3.6,2) F5(-2.8,2) F6(-2,2) F7(-1.2,2) F8(-0.4,2) F9(0.4,2) F10(1.2,2) F11(2,2) F12(2.8,2) F13(3.6,2) F14(4.4,2) F15(5.2,2) F16(6,2) G1(-6,1.2) G2(-5.2,1.2) G3(-4.4,1.2) G4(-3.6,1.2) G5(-2.8,1.2) G6(-2,1.2) G7(-1.2,1.2) G8(-0.4,1.2) G9(0.4,1.2) G10(1.2,1.2) G11(2,1.2) G12(2.8,1.2) G13(3.6,1.2) G14(4.4,1.2) G15(5.2,1.2) G16(6,1.2) H1(-6,0.4) H2(-5.2,0.4) H3(-4.4,0.4) H4(-3.6,0.4) H5(-2.8,0.4) H6(-2,0.4) H7(-1.2,0.4) H8(-0.4,0.4) H9(0.4,0.4) H10(1.2,0.4) H11(2,0.4) H12(2.8,0.4) H13(3.6,0.4) H14(4.4,0.4) H15(5.2,0.4) H16(6,0.4) J1(-6,-0.4) J2(-5.2,-0.4) J3(-4.4,-0.4) J4(-3.6,-0.4) J5(-2.8,-0.4) J6(-2,-0.4) J7(-1.2,-0.4) J8(-0.4,-0.4) J9(0.4,-0.4) J10(1.2,-0.4) J11(2,-0.4) J12(2.8,-0.4) J13(3.6,-0.4) J14(4.4,-0.4) J15(5.2,-0.4) J16(6,-0.4) K1(-6,-1.2) K2(-5.2,-1.2) K3(-4.4,-1.2) K4(-3.6,-1.2) K5(-2.8,-1.2) K6(-2,-1.2) K7(-1.2,-1.2) K8(-0.4,-1.2) K9(0.4,-1.2) K10(1.2,-1.2) K11(2,-1.2) K12(2.8,-1.2) K13(3.6,-1.2) K14(4.4,-1.2) K15(5.2,-1.2) K16(6,-1.2) L1(-6,-2) L2(-5.2,-2) L3(-4.4,-2) L4(-3.6,-2) L5(-2.8,-2) L6(-2,-2) L7(-1.2,-2) L8(-0.4,-2) L9(0.4,-2) L10(1.2,-2) L11(2,-2) L12(2.8,-2) L13(3.6,-2) L14(4.4,-2) L15(5.2,-2) L16(6,-2) M1(-6,-2.8) M2(-5.2,-2.8) M3(-4.4,-2.8) M4(-3.6,-2.8) M5(-2.8,-2.8) M6(-2,-2.8) M7(-1.2,-2.8) M8(-0.4,-2.8) M9(0.4,-2.8) M10(1.2,-2.8) M11(2,-2.8) M12(2.8,-2.8) M13(3.6,-2.8) M14(4.4,-2.8) M15(5.2,-2.8) M16(6,-2.8) N1(-6,-3.6) N2(-5.2,-3.6) N3(-4.4,-3.6) N4(-3.6,-3.6) N5(-2.8,-3.6) N6(-2,-3.6) N7(-1.2,-3.6) N8(-0.4,-3.6) N9(0.4,-3.6) N10(1.2,-3.6) N11(2,-3.6) N12(2.8,-3.6) N13(3.6,-3.6) N14(4.4,-3.6) N15(5.2,-3.6) N16(6,-3.6) P1(-6,-4.4) P2(-5.2,-4.4) P3(-4.4,-4.4) P4(-3.6,-4.4) P5(-2.8,-4.4) P6(-2,-4.4) P7(-1.2,-4.4) P8(-0.4,-4.4) P9(0.4,-4.4) P10(1.2,-4.4) P11(2,-4.4) P12(2.8,-4.4) P13(3.6,-4.4) P14(4.4,-4.4) P15(5.2,-4.4) P16(6,-4.4) R1(-6,-5.2) R2(-5.2,-5.2) R3(-4.4,-5.2) R4(-3.6,-5.2) R5(-2.8,-5.2) R6(-2,-5.2) R7(-1.2,-5.2) R8(-0.4,-5.2) R9(0.4,-5.2) R10(1.2,-5.2) R11(2,-5.2) R12(2.8,-5.2) R13(3.6,-5.2) R14(4.4,-5.2) R15(5.2,-5.2) R16(6,-5.2) T1(-6,-6) T2(-5.2,-6) T3(-4.4,-6) T4(-3.6,-6) T5(-2.8,-6) T6(-2,-6) T7(-1.2,-6) T8(-0.4,-6) T9(0.4,-6) T10(1.2,-6) T11(2,-6) T12(2.8,-6) T13(3.6,-6) T14(4.4,-6) T15(5.2,-6) T16(6,-6)
Top Overlay:
  lines w0.15: -6.5,-6.5 6.5,-6.5 6.5,6.5 -6.1,6.5 -6.5,6.1 -6.5,-6.5